# Altium integrated library FFC3B07-10-T.IntLib: 1 symbol
Pins are listed as number, name and electrical type; pins without a type are passive.

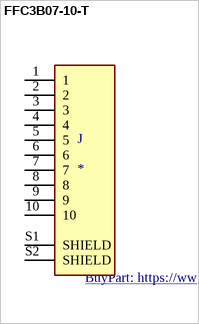
[diagram p0: symbol FFC3B07-10-T]

## FFC3B07-10-T
designator J
10 Position FFC, FPC Connector Contacts, Bottom 0.039 (1.00mm) Surface Mount, Right Angle; MF: Global Connector Technology; MP: FFC3B07-10-T; Value: *; SnapEDA_Link: https://www.snapeda.com/parts/FFC3B07-10-T/Global%20Connector%20Technology/view-part/4223038/?ref=snap; DigiKey-Purchase-URL: https://snapeda.com/shop?store=DigiKey&id=4223038; Package: Package; Availability: Warning; Price: None; BuyPart: https://www.snapeda.com/parts/FFC3B07-10-T/Global%20Connector%20Technology/view-part/4223038/?ref=eda
footprint GCT_FFC3B07-10-T
pins: 1, 2, 3, 4, 5, 6, 7, 8, 9, 10, S1 SHIELD, S2 SHIELD